# Altium integrated library AltiumLibraries.IntLib: 302 symbols (part 1 of 3)
Pins are listed as number, name and electrical type; pins without a type are passive.

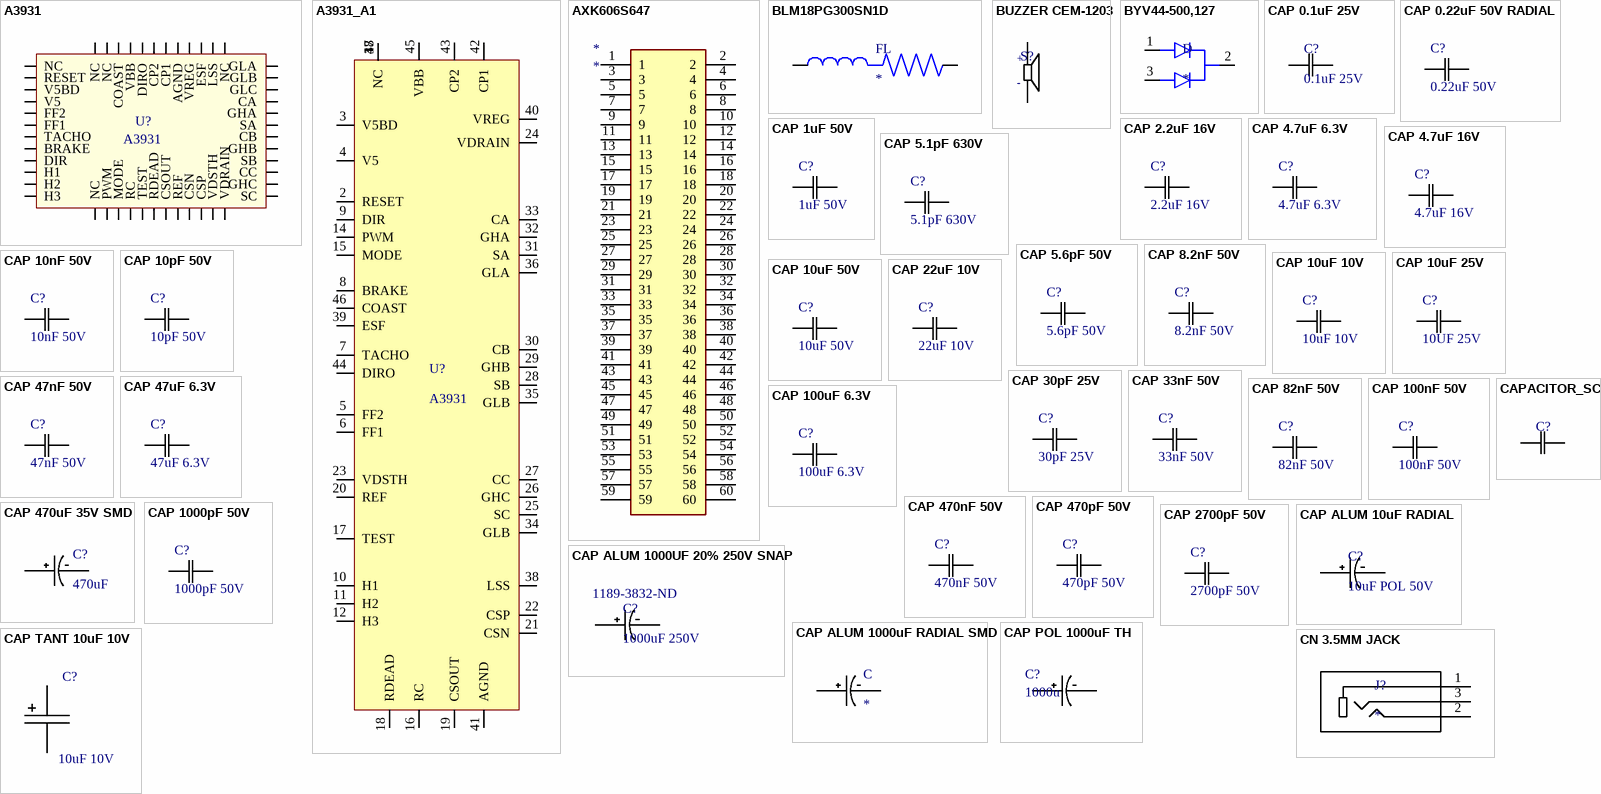
[diagram p0: symbols A3931 to CN 3.5MM JACK]

## A3931
designator U?
IC MOTOR DRIVER 5.5V-50V 48LQFP; MF: Allegro MicroSystems; MP: A3931KJPTR-T; Rating: 5.5V ~ 50V; Digikey: 620-1290-1-ND; Price: 8.948 CAD; Digikey Link: https://www.digikey.com/product-detail/en/allegro-microsystems-llc/A3931KJPTR-T/620-1290-1-ND/2000021; Supplier 1: Digi-Key; Supplier Part Number 1: 620-1290-1-ND
footprint 48-LQFP-EP (7x7)
pins: 1 NC, 2 RESET, 3 V5BD, 4 V5, 5 FF2, 6 FF1, 7 TACHO, 8 BRAKE, 9 DIR, 10 H1, 11 H2, 12 H3, 13 NC, 14 PWM, 15 MODE, 16 RC, 17 TEST, 18 RDEAD, 19 CSOUT, 20 REF, 21 CSN, 22 CSP, 23 VDSTH, 24 VDRAIN, 25 SC, 26 GHC, 27 CC, 28 SB, 29 GHB, 30 CB, 31 SA, 32 GHA, 33 CA, 34 GLC, 35 GLB, 36 GLA, 37 NC, 38 LSS, 39 ESF, 40 VREG, 41 AGND, 42 CP1, 43 CP2, 44 DIRO, 45 VBB, 46 COAST, 47 NC, 48 NC

## A3931_A1
designator U?, comment A3931
IC MOTOR DRIVER 5.5V-50V 48LQFP - Alternative Symbol; Digikey: 620-1290-1-ND; Digikey Link: https://www.digikey.ca/product-detail/en/allegro-microsystems/A3931KJPTR-T/620-1290-1-ND/2000021; Supplier 1: Digi-Key; Supplier Part Number 1: 620-1290-1-ND
footprint 48-LQFP-EP (7x7)
pins: 1 NC, 2 RESET, 3 V5BD, 4 V5, 5 FF2, 6 FF1, 7 TACHO, 8 BRAKE, 9 DIR, 10 H1, 11 H2, 12 H3, 13, 14 PWM, 15 MODE, 16 RC, 17 TEST, 18 RDEAD, 19 CSOUT, 20 REF, 21 CSN, 22 CSP, 23 VDSTH, 24 VDRAIN, 25 SC, 26 GHC, 27 CC, 28 SB, 29 GHB, 30 CB, 31 SA, 32 GHA, 33 CA, 34 GLB, 35 GLB, 36 GLA, 37 NC, 38 LSS, 39 ESF, 40 VREG, 41 AGND, 42 CP1, 43 CP2, 44 DIRO, 45 VBB, 46 COAST, 47 NC, 48 NC

## AXK606S647
designator *
RS14100_WIFI_CONN
footprint AXK606S647 (RS14100_WIFI_CONN)
pins: 1, 2, 3, 4, 5, 6, 7, 8, 9, 10, 11, 12, 13, 14, 15, 16, 17, 18, 19, 20, 21, 22, 23, 24, 25, 26, 27, 28, 29, 30, 31, 32, 33, 34, 35, 36, 37, 38, 39, 40, 41, 42, 43, 44, 45, 46, 47, 48, 49, 50, 51, 52, 53, 54, 55, 56, 57, 58, 59, 60

## BLM18PG300SN1D
designator FL
30 Ohms @ 100MHz 1 Power Line Ferrite Bead 0603 _1608 Metric_ 1A 50mOhm; MF: Murata; MP: BLM18PG300SN1D; SnapEDA_Link: https://www.snapeda.com/parts/BLM18PG300SN1D/Murata/view-part/270173/?ref=snap; Price: None; Availability: Unavailable; Package: 1608 Murata; Value: *
footprint BEADC1608X95N
pins: 1, 2

## BUZZER CEM-1203
designator S?  (value not drawn)
AUDIO MAGNETIC XDCR 3-5V TH; Current Rating: 35 mA @ 3.5 V; Frequency: 2.048 kHz @ 3.5 V; Decibels: 85 dB @ 3.5 V; ComponentLink1Description: Digikey Link; ComponentLink1URL: https://www.digikey.ca/products/en?keywords=CEM%201203%20buzzer; ComponentLink2Description: SnapEDA Link; ComponentLink2URL: https://www.snapeda.com/parts/CEM-1203%2842%29/CUI%20Devices/view-part/?ref=search&t=CEM%201203; Part Name: CEM-1203; Rated Voltage: 3-5 V; Supplier 1: Digi-Key; Supplier Part Number 1: 102-1153-ND
footprint CEM-1203 (2048 Hz Speaker)
pins: N, P
text: +; -

## BYV44-500,127
designator D
DIODE ARRAY GP 500V 30A TO220AB; MP: BYV44-500,127; MF: WeEn Semiconductors; Package: TO-220-3; Supplier 1: Digi-Key; Supplier Part Number 1: BYV44-500,127-ND
footprint to-220-3
pins: 1 ANODE1, 2 COMMON_CATHODE, 3 ANODE2

## CAP 0.1uF 25V
designator C?, comment 0.1uF 25V
CAP CER 0.1UF 25V X7R 0805; Tolerance: 10%; Value: 0.1uF; Temperature Coefficient: X7R; Rating: 25V; Operating Temperature: -55°C ~ 125°C
footprint 0805
pins: 1 C1, 2 C2

## CAP 0.22uF 50V RADIAL
designator C?, comment 0.22uF 50V
CAP CER 0.22UF 50V X7R RADIAL; Tolerance: 10%; Package: Through Hole Radial; Value: 0.22 uF; Rating: 50V; ComponentLink1Description: digikey; ComponentLink1URL: https://www.digikey.ca/product-detail/en/kemet/C317C221K2G5TA7301/399-13974-1-ND/6562545; Temperature coefficient: X7R; Dimensions: 0.200" L x 0.125" W (5.08mm x 3.18mm); Operating temperature: -55°C ~ 125°C
footprint 0.22uF Thru hole
pins: 1 C1, 2 C2

## CAP 1uF 50V
designator C?, comment 1uF 50V
CAP CER 1UF 50V X7R 0805; Tolerance: 10%; Package: 0805; Value: 1uF; Rating: 50V; Temperature Coefficient: X7R; Operating Temperature: -55°C ~ 125°C
footprint 0805
pins: 1 C1, 2 C2

## CAP 2.2uF 16V
designator C?, comment 2.2uF 16V
CAP CER 2.2UF 16V X7R 0805; Tolerance: 10%; Package: 0805; Value: 2.2uF; Rating: 16V; Temperature Coefficient: X7R; Operating Temperature: -55°C ~ 125°C
footprint 0805
pins: 1 C1, 2 C2

## CAP 4.7uF 6.3V
designator C?, comment 4.7uF 6.3V
CAP CER 4.7UF 6.3V X5R 0805; Tolerance: 10%; Temperature Coefficient: X7R, X5R; Package: 0805; Value: 4.7uF; Rating: 6.3V
footprint 0805
pins: 1 C1, 2 C2

## CAP 4.7uF 16V
designator C?, comment 4.7uF 16V
CAP CER 4.7UF 16V X7R 0805; Tolerance: 10%; Package: 0805; Value: 4.7uF; Rating: 16V; Temperature Coefficient: X7R; Operating Temperature: -55°C ~ 125°C
footprint 0805
pins: 1 C1, 2 C2

## CAP 5.1pF 630V
designator C?, comment 5.1pF 630V
CAP CER 5.1PF 630V C0G/NP0 0805; Tolerance: 10%; Rating: 50V; Package: 0805; Value: 5.1pF; Temperature Coefficient: C0G/NP0; Operating Temperature: -55°C ~ 125°C
footprint 0805
pins: 1 C1, 2 C2

## CAP 5.6pF 50V
designator C?, comment 5.6pF 50V
CAP CER 5.6PF 50V C0G/NP0 0805; Tolerance: 5%; Package: 0805; Value: 5.6pF; Rating: 50V; Temperature Coefficient: C0G/NP0; Operating Temperature: -55°C ~ 125°C
footprint 0805
pins: 1 C1, 2 C2

## CAP 8.2nF 50V
designator C?, comment 8.2nF 50V
CAP CER 8200PF 50V X7R 0805; Tolerance: 10%; Package: 0805; Value: 8.2nF; Rating: 50V; Temperature Coefficient: X7R; Operating Temperature: -55°C ~ 125°C
footprint 0805
pins: 1 C1, 2 C2

## CAP 10nF 50V
designator C?, comment 10nF 50V
CAP CER 10000PF 50V X7R 0805; Tolerance: 10%; Package: 0805; Value: 10nF; Rating: 50V; Temperature Coefficient: X7R; Operating Temperature: -55°C ~ 125°C
footprint 0805
pins: 1 C1, 2 C2

## CAP 10pF 50V
designator C?, comment 10pF 50V
CAP CER 10PF 50V X7R 0603; Tolerance: 10%; Package: 0603; Value: 10pF; Rating: 50V; ComponentLink1Description: digikey; ComponentLink1URL: https://www.digikey.ca/en/products/detail/kemet/C0603C100K5RAC7867/8572397
footprint 0603
pins: 1 C1, 2 C2

## CAP 10uF 10V
designator C?, comment 10uF 10V
CAP CER 10UF 10V X5R 0805; Tolerance: 10%; Package: 0805; Value: 10uF; Rating: 10V
footprint 0805
pins: 1 C1, 2 C2

## CAP 10uF 25V
designator C?, comment 10UF 25V
CAP CER 10UF 25V X5R 1206; Tolerance: 10%; Package: 1206; Value: 10uF; Rating: 25V; Temperature Coefficient: X5R; Operating Temperature: -55°C ~ 85°C
footprint 1206
pins: 1 C1, 2 C2

## CAP 10uF 50V
designator C?, comment 10uF 50V
CAP CER 10UF 50V X7R; Tolerance: 10%; Package: 1210; Value: 10uF; Rating: 50V; ComponentLink1Description: digikey; ComponentLink1URL: https://www.digikey.ca/en/products/detail/kemet/C1210C106M5RACTU/4918883
footprint 1210
footprint 0805
pins: 1 C1, 2 C2

## CAP 22uF 10V
designator C?, comment 22uF 10V
CAP CER 2.2UF 10V X5R 0805; Tolerance: 20%; Package: 0805; Value: 22uF; Rating: 10V; Temperature Coefficient: X5R; Operating Temperature: -55°C ~ 85°C
footprint 0805
pins: 1 C1, 2 C2

## CAP 30pF 25V
designator C?, comment 30pF 25V
CAP CER 30PF 25V NP0 0805; Tolerance: 20%; Package: 0805; Value: 30pF; Rating: 25V
footprint 0805
pins: 1 C1, 2 C2

## CAP 33nF 50V
designator C?, comment 33nF 50V
CAP CER 0.033UF 50V X7R 0805; Tolerance: 5%; Package: 0805; Value: 33nF; Rating: 50V; Alt. Value: 33nF
footprint 0805
pins: 1 C1, 2 C2

## CAP 47nF 50V
designator C?, comment 47nF 50V
CAP CER 0.047UF 50V X7R 0805; Tolerance: 5%; Package: 0805; Value: 47nF; Rating: 50V; Alt. Value: 47nF
footprint 0805
pins: 1 C1, 2 C2

## CAP 47uF 6.3V
designator C?, comment 47uF 6.3V
CAP CER 47UF 6.3V X7R 1210; Tolerance: 10%; Package: 1210; Value: 47uF; Rating: 6.3V; ComponentLink1Description: digikey; ComponentLink1URL: https://www.digikey.ca/en/products/detail/kemet/C1210C106M5RACTU/4918883
footprint 1210
pins: 1 C1, 2 C2

## CAP 82nF 50V
designator C?, comment 82nF 50V
CAP CER 0.082UF 50V X7R 0805; Tolerance: 5%; Package: 0805; Value: 82nF; Rating: 50V; Alt. Value: 82nF
footprint 0805
pins: 1 C1, 2 C2

## CAP 100nF 50V
designator C?, comment 100nF 50V
CAP CER 0.1UF 50V X7R 0805; Tolerance: 10%; Package: 0805; Value: 100nF; Rating: 50V
footprint 0805
pins: 1 C1, 2 C2

## CAP 100uF 6.3V
designator C?, comment 100uF 6.3V
CAP CER 100UF 6.3V X5R 1206; Tolerance: 20%; Package: 1206; Value: 100uF; Rating: 6.3V
footprint 1206
pins: 1 C1, 2 C2

## CAP 470nF 50V
designator C?, comment 470nF 50V
CAP CER 0.1UF 50V X7R 0805; Tolerance: 10%; Package: 0805; Value: 470nF; Rating: 50V
footprint 0805
pins: 1 C1, 2 C2

## CAP 470pF 50V
designator C?, comment 470pF 50V
CAP CER 470PF 50V C0G/NPO 0805; Tolerance: 5%; Package: 0805; Value: 470pF; Rating: 50V
footprint 0805
pins: 1 C1, 2 C2

## CAP 470uF 35V SMD
designator C?, comment 470uF
470µF 35V Aluminum Electrolytic Capacitors Radial, Can - SMD 5000 Hrs @ 105°C; MP: EEV-FK1V471Q; MF: Panasonic Electronic; Price: None; Package: Radial Panasonic Electronic
footprint Radial, Can - SMD
pins: NEG, POS

## CAP 1000pF 50V
designator C?, comment 1000pF 50V
CAP CER 1000PF 50V X7R 0805; Tolerance: 10%; Alternative value: 1nF; Package: 0805; Value: 1000pF; Rating: 50V; Temperature Coefficient: X7R
footprint 0805
pins: 1 C1, 2 C2

## CAP 2700pF 50V
designator C?, comment 2700pF 50V
CAP CER 2700PF 50V X7R 0805; Tolerance: 10%; Package: 0805; Value: 2700pF; Rating: 50V; Temperature Coefficient: X7R; Operating Temperature: -55°C ~ 125°C
footprint 0805
pins: 1 C1, 2 C2

## CAP ALUM 10uF RADIAL
designator C?, comment 10uF POL 50V
CAP ALUM 10UF 50V RADIAL; Tolerance: 20%; Temperature Coefficient: Unspecified; ComponentLink1Description: Digikey Link; ComponentLink1URL: https://www.digikey.ca/product-detail/en/panasonic-electronic-components/ECA-1HM100I/P10425CT-ND/8603345; Package: RADIAL; Value: 10uF; Rating: 50V; Operating Temperature: -40°C ~ 85°C; Dimensions: 0.197" Dia (5.00mm)
footprint RADIAL - THRU 5mm (Through Hole)
pins: NEG, POS

## CAP ALUM 1000UF 20% 250V SNAP
designator C?, comment 1000uF 250V  Supplier Part Number 1: 1189-3832-ND
1000µF 250V Aluminum Electrolytic Capacitors Radial, Can - Snap-In  3000 Hrs @ 85°C; Tolerance: 20%; Temperature Coefficient: Unspecified; ComponentLink1Description: Digikey Link; ComponentLink1URL: https://www.digikey.ca/product-detail/en/panasonic-electronic-components/ECA-1HM100I/P10425CT-ND/8603345; Package: RADIAL; Value: 1000uF; Rating: 250V; Operating Temperature: -40°C ~ 85°C; Dimensions: 0.984"" Dia (25.00mm); Supplier 1: Digi-Key
pins: NEG, POS

## CAP ALUM 1000uF RADIAL SMD
designator C
1000µF 25V Aluminum Electrolytic Capacitors Radial, Can - SMD 5000 Hrs @ 105Â°C; MF: Panasonic; MP: EEV-FK1E102Q; Package: Radial Panasonic; Value: *; Price: None; Availability: Unavailable; SnapEDA_Link: https://www.snapeda.com/parts/EEV-FK1E102Q/Panasonic%20Electronic%20Components/view-part/492355/?ref=snap; ComponentLink1Description: Digi-Key; ComponentLink1URL: https://www.digikey.ca/en/products/detail/panasonic-electronic-components/EEV-FK1E102Q/396274?s=N4IgTCBcDaIKJwGoFoBiBpAjHTAGMAiiALoC%2BQA; ComponentLink2Description: ciiva; ComponentLink2URL: https://ciiva.com/part/250usg1000mefcsn25x45-4128165
footprint Radial, Can - SMD
pins: NEG, POS

## CAP POL 1000uF TH
designator C?, comment 1000u
NICHICON   UVR1E102MPD1TD   ALUMINUM ELECTROLYTIC CAPACITOR, 1000UF, 25V, 20%, RADIAL, FULL REEL; Dielectric Material: Aluminium; Life (Hours): 2000Hour; Capacitance: 1mF; Leakage Current: 750uA; Dissipation Factor: 0.16%; Ripple Current: 960mA; Lead Diameter: 0.6mm; Supplier 1: Digi-Key; Manufacturer: Nichicon; Manufacturer Part Number: UVR1E102MPD1TD; RoHS: Yes; Category: Aluminum Electrolytic Capacitors; Stock 1: 43448; Pricing 1: 1=0.58000, 10=0.40800, 100=0.26890 (USD); Mount: Through Hole,PCB; Case/Package: Radial; Number of Pins: 2; Min Operating Temperature: -40°C; Max Operating Temperature: 85°C; Packaging: Tape and Reel; Tolerance: 20%; Voltage Rating (DC): 25V; Voltage Rating: 25V; Termination: Radial; Voltage: 25V; Package Quantity: 500; Diameter: 10mm; Length: 20mm; Height: 20mm; Height - Seated (Max): 0.866inch; Lead Pitch: 5mm; Radiation Hardening: No; REACH SVHC: No SVHC; Lead Free: Lead Free; ComponentLink1URL: https://datasheet.ciiva.com/7851/e-vr-7851718.pdf?src-supplier=Element14; ComponentLink1Description: https://datasheet.ciiva.com/7851/e-vr-7851718.pdf?src-supplier=Element14; ComponentLink2URL: https://datasheet.ciiva.com/6300/e-vr-6300009.pdf?src-supplier=Digi-Key; ComponentLink2Description: https://datasheet.ciiva.com/6300/e-vr-6300009.pdf?src-supplier=Digi-Key; ComponentLink3URL: https://datasheet.ciiva.com/6300/e-vr-6300010.pdf?src-supplier=Digi-Key; ComponentLink3Description: https://datasheet.ciiva.com/6300/e-vr-6300010.pdf?src-supplier=Digi-Key; ComponentLink4URL: https://datasheet.ciiva.com/11684/e-vr-11684106.pdf?src-supplier=Avnet; ComponentLink4Description: https://datasheet.ciiva.com/11684/e-vr-11684106.pdf?src-supplier=Avnet; ComponentLink5URL: https://datasheet.ciiva.com/16502/e-vr-16502813.pdf?src-supplier=Future+Electronics; ComponentLink5Description: https://datasheet.ciiva.com/16502/e-vr-16502813.pdf?src-supplier=Future+Electronics; ComponentLink6URL: https://datasheet.ciiva.com/46381/1909356-46381757.pdf?src-supplier=Element14; ComponentLink6Description: https://datasheet.ciiva.com/46381/1909356-46381757.pdf?src-supplier=Element14; Supplier Part Number 1: 493-5913-1-ND
footprint RADIAL - THRU 5mm (Through Hole)
pins: NEG, POS

## CAP TANT 10uF 10V
designator C?, comment 10uF 10V
CAP TANT 10UF 10V 1206; Tolerance: 10%; ESR (Equivalent Series Resistance): 3.8 Ohm; Type: Molded Tantalum; Package: 1206; Value: 10uF; Rating: 10V; Operating Temperature: -55°C ~ 125°C
footprint 1206 Polarized
pins: 1 P$1, 2 P$2

## CAPACITOR_SCH
designator C?
pins: 1 C1, 2 C2

## CN 3.5MM JACK
designator J?
CN JACK STEREO 3.5MM R/A; MF: CUI Devices; MP: SJ1-3523N; Digikey: CP1-3523N-ND; Digikey Link: https://www.digikey.ca/product-detail/en/cui-devices/SJ1-3523N/CP1-3523N-ND/738689; Supplier 1: Digi-Key; Supplier Part Number 1: CP1-3523N-ND
footprint CONN JACK STEREO 3.5MM R/A
pins: 1, 2, 3

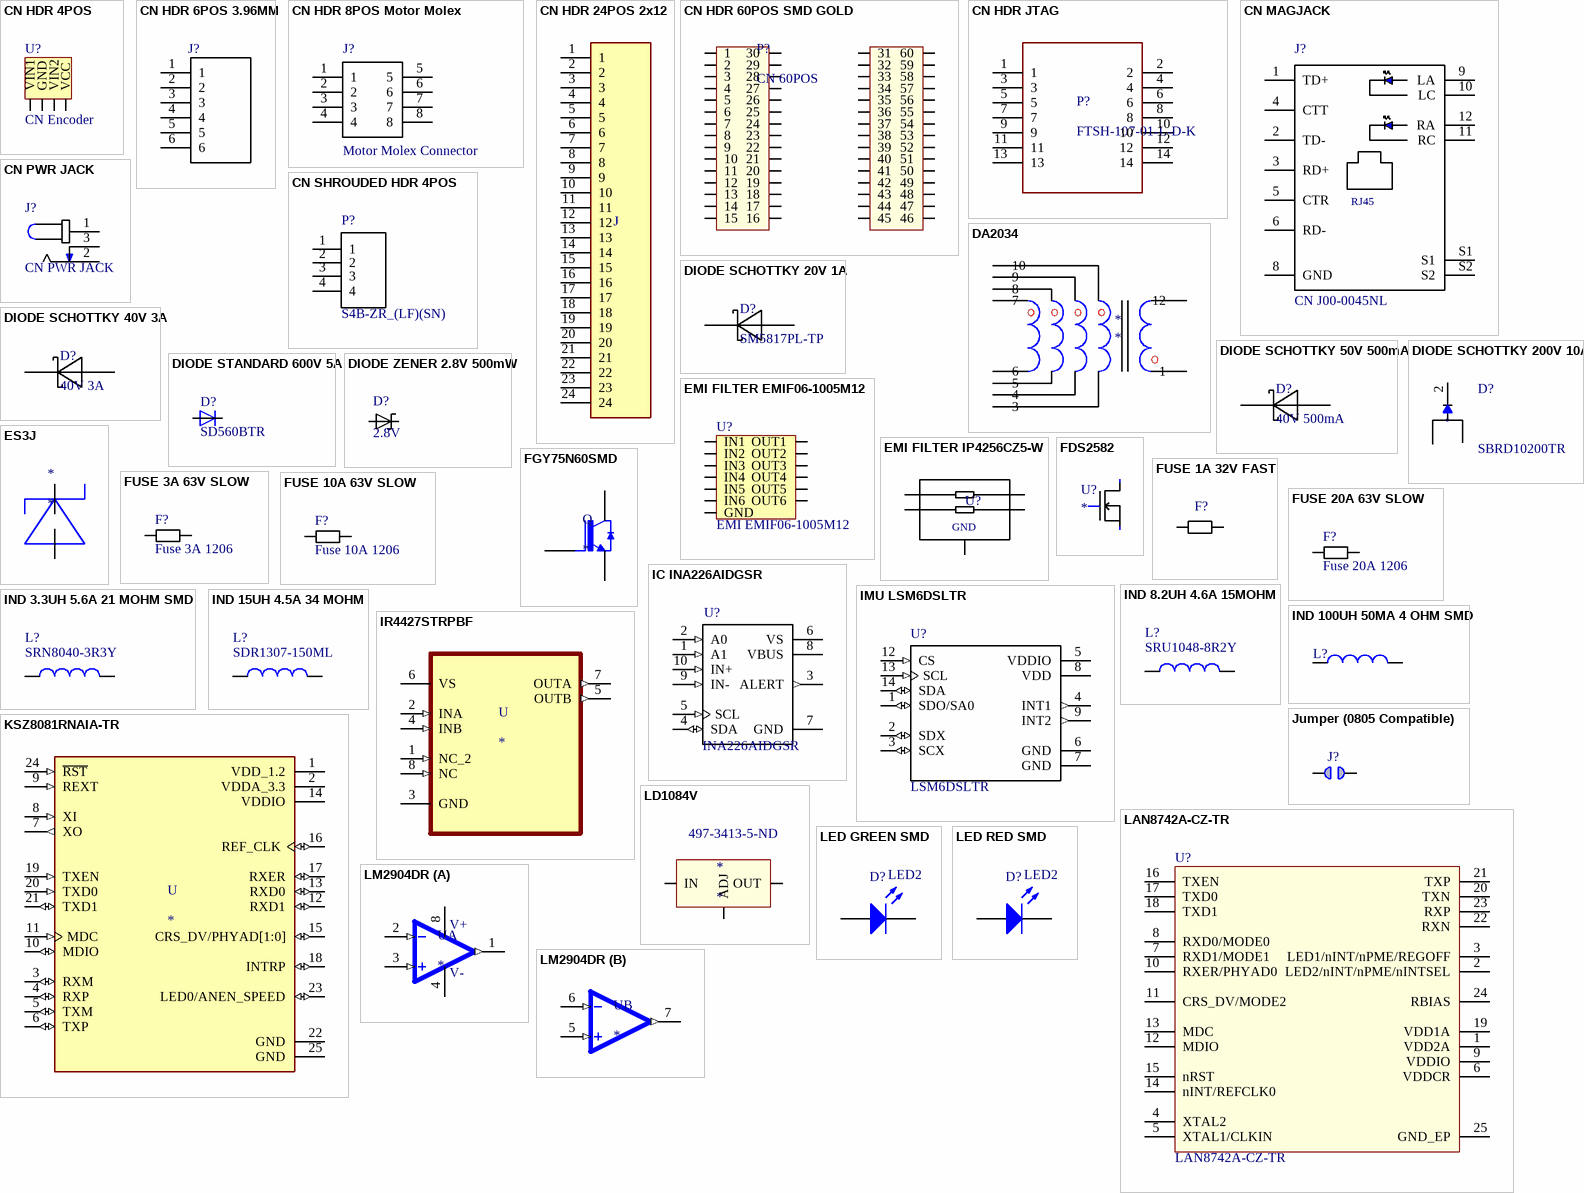
[diagram p1: symbols CN HDR 4POS to LM2904DR]

## CN HDR 4POS
designator U?, comment CN Encoder
CN HDR R/A 4POS 1.5MM; MF: JST Sales America Inc.; MP: S4B-ZR(LF)(SN); Rating: 1A; Digikey: 455-1671-ND; Digikey Link: https://www.digikey.ca/products/en?keywords=455-1671-ND; Price: 0.324 CAD; Package: N/A; Value: N/A; Supplier 1: Digi-Key; Supplier Part Number 1: 455-1671-ND
footprint EncoderConnector (CONN HEADER R/A 4POS 1.5MM)
pins: GND (power), VCC (power), VIN1 (in), VIN2 (in)

## CN HDR 6POS 3.96MM
designator J?, comment CONN HEADER VERT 6POS 3.96MM  (value not drawn)
MF: TE Connectivity; MP: 1877285-6; Current Rating: 7.5A; Voltage Rating: 250VAC; SnapEDA_Link: https://www.snapeda.com/parts/1877285-6/TE%20Connectivity/view-part/2371244/?ref=snap; Digikey: A99849-ND; Digikey Link: https://www.digikey.ca/product-detail/en/te-connectivity-amp-connectors/1877285-6/A99849-ND/2000097; Supplier 1: Digi-Key; Supplier Part Number 1: A99849-ND
footprint CN HDR 6POS 3.96MM
pins: 1, 2, 3, 4, 5, 6

## CN HDR 8POS Motor Molex
designator J?, comment Motor Molex Connector
Connector Header Through Hole 8 position 0.165" (4.20mm); MP: 0039281083; MF: Molex; Digikey: WM3803-ND; Price: 1.624 CAD; Value: N/A; Digikey Link: https://www.digikey.ca/products/en?keywords=WM3803-ND; Supplier 1: Digi-Key; Supplier Part Number 1: WM3803-ND
footprint MOLEX_0039281083
pins: 1, 2, 3, 4, 5, 6, 7, 8

## CN HDR 24POS 2x12
designator J  (value not drawn)
Pin Connector 2X12P MOD2 STIFTLEI 24 POS 0.1" 2.54mm
footprint CN Header 24 POS (12x2) (24 position, dual row, standard 0.1" (2.54mm) spacing.)
pins: 1, 2, 3, 4, 5, 6, 7, 8, 9, 10, 11, 12, 13, 14, 15, 16, 17, 18, 19, 20, 21, 22, 23, 24

## CN HDR 60POS SMD GOLD
designator P?, comment CN 60POS
60 Position Connector Header, Outer Shroud Contacts Surface Mount Gold; MF: Panasonic Electric Works; MP: AXK6S60647YG; Digikey: 255-2536-1-ND; Digikey Link: https://www.digikey.ca/product-detail/en/panasonic-electric-works/AXK6S60647YG/255-2536-1-ND/1986699; Price: 3.718; Value: N/A; Tolerance: N/A; Rating: N/A; Package: N/A; Supplier 1: Digi-Key; Supplier Part Number 1: 255-2536-1-ND
footprint CN HDR 60POS (60 Position Connector Header, Outer Shroud Contacts Surface Mount Gold)
pins: 1, 2, 3, 4, 5, 6, 7, 8, 9, 10, 11, 12, 13, 14, 15, 16, 17, 18, 19, 20, 21, 22, 23, 24, 25, 26, 27, 28, 29, 30, 31, 32, 33, 34, 35, 36, 37, 38, 39, 40, 41, 42, 43, 44, 45, 46, 47, 48, 49, 50, 51, 52, 53, 54, 55, 56, 57, 58, 59, 60

## CN HDR JTAG
designator P?, comment FTSH-107-01-L-D-K
Connector Header Through Hole 14 position 0.050" (1.27mm); MF: Samtec Inc.; Rating: 3.4A; ComponentLink1Description: Digikey; ComponentLink1URL: https://www.digikey.ca/product-detail/en/samtec-inc/FTSH-107-01-L-D-K/612-FTSH-107-01-L-D-K-ND/6693516; ComponentLink2Description: Datasheet; ComponentLink2URL: https://www.digikey.ca/en/datasheets/samtecinc/samtec-inc-ftsh-1xx-xx-xx-d-xx-xx-mkt; Digikey: 612-FTSH-107-01-L-D-K-ND; Digikey Link: https://www.digikey.ca/product-detail/en/samtec-inc/FTSH-107-01-L-D-K/612-FTSH-107-01-L-D-K-ND/6693516; MP: FTSH-107-01-L-D-K; Price: 5.14000 CAD; Supplier 1: Mouser; Supplier Part Number 1: 200-FTSH10701LDK
footprint CN HDR JTAG (CONN HEADER VERT 14POS 1.27MM)
pins: 1, 2, 3, 4, 5, 6, 7, 8, 9, 10, 11, 12, 13, 14

## CN MAGJACK
designator J?, comment CN J00-0045NL
CN MAGJACK 1PORT 100 BASE-TX; MF: Pulse Electronics; Package: None; Digikey Link: https://www.digikey.com/product-detail/en/pulse-electronics-network/J00-0045NL/553-1619-5-ND/1036860?utm_source=snapeda&utm_medium=aggregator&utm_campaign=symbol; Digikey: 553-1619-5-ND; SnapEDA_Link: https://www.snapeda.com/parts/J00-0045NL/Pulse%20Electronics%20Network/view-part/87956/?ref=snap; MP: J00-0045NL; Value: *; Supplier 1: Mouser; Supplier Part Number 1: 673-J00-0045NL
footprint RJ45 J00-0045NL
pins: 1 TD+, 2 TD-, 3 RD+, 4 CTT, 5 CTR, 6 RD-, 8 GND, 9 LA, 10 LC, 11 RC, 12 RA, S1, S2
text: RJ45

## CN PWR JACK
designator J?
1.3 x 4.2 mm, 2.0 A, Horizontal, Through Hole, Dc Power Jack Connector; MP: PJ-007; MF: CUI Devices; Current Rating: 2.0A; Price: None; SnapEDA_Link: https://www.snapeda.com/parts/PJ-007/CUI%20Devices/view-part/260682/?ref=snap; Package: None; Availability: Unavailable; CUI_purchase_URL: https://www.cuidevices.com/product/interconnect/connectors/dc-power-connectors/jacks/pj-007?utm_source=snapeda.com&utm_medium=referral&utm_campaign=snapedaBOM; Value: *; Supplier 1: Digi-Key; Supplier Part Number 1: CP-2519-ND
footprint CUI_PJ-007
pins: 1, 2, 3

## CN SHROUDED HDR 4POS
designator P?, comment S4B-ZR_(LF)(SN)
Conn Shrouded Header HDR 4 POS 1.5mm Solder RA Thru-Hole Box; MP: S4B-ZR _LF__SN_; MF: JST Sales; Package: None; Price: None; Digikey PN: 455-1671-ND; Supplier 1: Digi-Key; Supplier Part Number 1: 455-1671-ND
footprint JST_S4B-ZR(LF)(SN)
pins: 1, 2, 3, 4

## DA2034
designator *
Audio Transformers / Signal Transformers DA2032 Cap Chrgr For Linear LT3750/51; Supplier 1: Mouser; Supplier Part Number 1: 994-DA2034-ALB
footprint DA2034
pins: 1, 3, 4, 5, 6, 7, 8, 9, 10, 12

## DIODE SCHOTTKY 20V 1A
designator D?, comment SM5817PL-TP
Diode Schottky 20V 1A Surface Mount SOD-123FL; MF: Micro Commercial Co; ComponentLink1Description: digikey; ComponentLink1URL: https://www.digikey.ca/product-detail/en/on-semiconductor/MBR0540T1G/MBR0540T1GOSCT-ND/917967; Digikey: SM5817PL-TPMSCT-ND; Digikey Link: https://www.digikey.ca/product-detail/en/micro-commercial-co/SM5817PL-TP/SM5817PL-TPMSCT-ND/1793410; MP: SM5817PL-TP; Voltage Rating: 20V; Package: SOD-123; Current Rating: 1A
footprint SOD-123
pins: A, C K

## DIODE SCHOTTKY 40V 3A
designator D?, comment 40V 3A
Diode Schottky 40V 3A Surface Mount SMA; Voltage - Forward (Vf) (Max) @ If: 450mV @ 3A; ComponentLink1Description: digikey; ComponentLink1URL: https://www.digikey.ca/product-detail/en/on-semiconductor/MBR0540T1G/MBR0540T1GOSCT-ND/917967; Voltage - DC Reverse (Vr) (Max): 40V; Package: DO-214AC; Current - Average Rectified (Io): 3A
footprint DO-214AC
pins: A, C K

## DIODE SCHOTTKY 50V 500mA
designator D?, comment 40V 500mA
DIODE SCHOTTKY SMD 40V 500mA SOD123; Speed: Fast Recovery =< 500ns, > 200mA (Io); Voltage - Forward (Vf) (Max) @ If: 510mV @ 500mA; ComponentLink1Description: digikey; ComponentLink1URL: https://www.digikey.ca/product-detail/en/on-semiconductor/MBR0540T1G/MBR0540T1GOSCT-ND/917967; Voltage - DC Reverse (Vr) (Max): 40V; Package: SOD-123; Current - Average Rectified (Io): 500mA
footprint SOD-123
pins: A, C

## DIODE SCHOTTKY 200V 10A
designator D?, comment SBRD10200TR
Diode Schottky 200V 10A Surface Mount DPAK; MF: SMC Diode; MP: SBRD10200TR; SnapEDA_Link: https://www.snapeda.com/parts/SBRD10200TR/SMC%20Diode%20Solutions/view-part/702246/?ref=snap; Package: TO-252-3 SMC; ComponentLink1Description: digikey; ComponentLink1URL: https://www.digikey.ca/product-detail/en/smc-diode-solutions/SBRD10200TR/1655-1939-1-ND/8625508; Digikey: 1655-1939-1-ND; Digikey Link: https://www.digikey.ca/product-detail/en/smc-diode-solutions/SBRD10200TR/1655-1939-1-ND/8625508
footprint DPAK
pins: 1, 2, 3

## DIODE STANDARD 600V 5A
designator D?, comment SD560BTR
Diode Standard 600V 5A Surface Mount SMB; Supplier 1: Digi-Key; Supplier Part Number 1: 1655-1530-1-ND
footprint DO-214AA
pins: A, C

## DIODE ZENER 2.8V 500mW
designator D?, comment 2.8V
Zener Diode 2.8V 500mW ±5% Surface Mount SOD-123; Impedance (Max) (Zzt): 30 Ohms; Current - Reverse Leakage @ Vr: 75µA @ 1V; Voltage - Forward (Vf) (Max) @ If: 900mV @ 10mA; ComponentLink1Description: digikey; ComponentLink1URL: https://www.digikey.ca/en/products/detail/micro-commercial-co/MMSZ5245B-TP/1793206; Power - Max: 500mW; Voltage - Zener (Nom) (Vz): 2.8V
footprint SOD-123
pins: A, C

## EMI FILTER EMIF06-1005M12
designator U?, comment EMI EMIF06-1005M12
FILTER RC(PI) 100 OHM/45PF SMD; MF: STMicroelectronics; Price: 0.49 CAD; Digikey: 497-7740-1-ND; MP: EMIF06-1005M12; Digikey Link: https://www.digikey.ca/product-detail/en/stmicroelectronics/EMIF06-1005M12/497-7740-1-ND/1883755; Package: 12-UFDFN; Supplier 1: Digi-Key; Supplier Part Number 1: 497-7740-1-ND
footprint Filter (EMIFilter)
pins: 1 IN1, 2 IN2, 3 IN3, 4 IN4, 5 IN5, 6 IN6, 7 OUT1, 8 OUT2, 9 OUT3, 10 OUT4, 11 OUT5, 12 OUT6, GND

## EMI FILTER IP4256CZ5-W
designator U?, comment EMI  (value not drawn)
FILTER RC(PI) 100 OHM/19PF SMD; MF: Nexperia USA Inc.; MP: IP4256CZ5-W,115; SnapEDA_Link: https://www.snapeda.com/parts/IP4256CZ5-W/Nexperia%20USA%20Inc./view-part/3605439/?ref=snap; Price: 0.17 CAD; Package: SOT-665; Digikey: 1727-4718-1-ND; Digikey Link: https://www.digikey.ca/product-detail/en/nexperia-usa-inc/IP4256CZ5-W115/1727-4718-1-ND/2531158; Supplier 1: Digi-Key; Supplier Part Number 1: 1727-4718-1-ND
footprint SOT-665
pins: 1 P$1, 2 P$2, 3 P$3, 4 P$4, 5 P$5
text: GND

## ES3J
designator *
Diode Switching 600V 3A 2-Pin DO-214AB T/R; Manufacturer: ON Semiconductor / Fairchild; Manufacturer Part Number: ES3J; Element Configuration: Single; Power Dissipation: 1.66W; Reverse Recovery Time: 35ns; Peak Non-Repetitive Surge Current: 100A; Polarity: Standard; Capacitance: 45pF; Forward Voltage: 1.7V; Peak Reverse Current: 10uA; Supplier 1: Digi-Key; RoHS: Yes; Category: Zener Diodes; Stock 1: 20740; Pricing 1: 1=0.47000, 10=0.37800, 25=0.34600, 100=0.21740, 250=0.21492, 500=0.20126, 1000=0.13685 (USD); Mount: Surface Mount; Case/Package: SMC; Number of Pins: 2; Contact Plating: Tin,Matte; Min Operating Temperature: -50°C; Max Operating Temperature: 150°C; Reverse Voltage: 600V; Max Reverse Voltage (DC): 600V; Average Rectified Current: 3A; Max Repetitive Reverse Voltage (Vrrm): 600V; Max Forward Surge Current (Ifsm): 100A; Current: 3A; Voltage: 600V; Voltage Rating (DC): 600V; Current Rating: 3A; Output Current: 3A; Max Surge Current: 100A; Packaging: Tape and Reel; Package Quantity: 3000; Recovery Time: 35ns; Forward Current: 3A; Length: 7.11mm; Height: 2.616mm; Width: 6.223mm; Radiation Hardening: No; REACH SVHC: No SVHC; Lead Free: Lead Free; ComponentLink1URL: https://datasheet.ciiva.com/4452/es3j-187547-4452440.pdf?src-supplier=Mouser; ComponentLink1Description: https://datasheet.ciiva.com/4452/es3j-187547-4452440.pdf?src-supplier=Mouser; ComponentLink2URL: https://datasheet.ciiva.com/30479/0900766b810e1d0b-30479500.pdf?src-supplier=RSComponents; ComponentLink2Description: https://datasheet.ciiva.com/30479/0900766b810e1d0b-30479500.pdf?src-supplier=RSComponents; ComponentLink3URL: https://datasheet.ciiva.com/22651/1856389-22651960.pdf?src-supplier=Element14; ComponentLink3Description: https://datasheet.ciiva.com/22651/1856389-22651960.pdf?src-supplier=Element14; ComponentLink4URL: https://datasheet.ciiva.com/26230/es3j-26230952.pdf?src-supplier=Avnet+Europe; ComponentLink4Description: https://datasheet.ciiva.com/26230/es3j-26230952.pdf?src-supplier=Avnet+Europe; ComponentLink5URL: https://datasheet.ciiva.com/911/es3a-911003.pdf?src-supplier=Digi-Key; ComponentLink5Description: https://datasheet.ciiva.com/911/es3a-911003.pdf?src-supplier=Digi-Key; ComponentLink6URL: https://datasheet.ciiva.com/911/es3a-911004.pdf?src-supplier=Digi-Key; ComponentLink6Description: https://datasheet.ciiva.com/911/es3a-911004.pdf?src-supplier=Digi-Key; ComponentLink7URL: https://datasheet.ciiva.com/23683/1856389-23683564.pdf?src-supplier=Newark; ComponentLink7Description: https://datasheet.ciiva.com/23683/1856389-23683564.pdf?src-supplier=Newark; ComponentLink8URL: https://datasheet.ciiva.com/17194/es3j-17194703.pdf?src-supplier=Future+Electronics; ComponentLink8Description: https://datasheet.ciiva.com/17194/es3j-17194703.pdf?src-supplier=Future+Electronics; ComponentLink9URL: https://datasheet.ciiva.com/7965/1856389-7965165.pdf?src-supplier=Element14; ComponentLink9Description: https://datasheet.ciiva.com/7965/1856389-7965165.pdf?src-supplier=Element14; ComponentLink10URL: https://datasheet.ciiva.com/8300/es3j-8300861.pdf?src-supplier=Avnet; ComponentLink10Description: https://datasheet.ciiva.com/8300/es3j-8300861.pdf?src-supplier=Avnet; Supplier Part Number 1: ES3JCT-ND
footprint DO-214AB
pins: IN, OUT

## FDS2582
designator U?
N-Channel 150V 4.1A (Ta) 2.5W (Ta) Surface Mount 8-SOIC; MF: ON Semiconductor; MP: FDS2582; Digikey: FDS2582CT-ND; Price: 0.98 CAD; Rating: 150V; Digikey Link: https://www.digikey.com/product-detail/en/on-semiconductor/FDS2582/FDS2582CT-ND/3025307; Package: 8-SOIC; Supplier 1: Digi-Key; Supplier Part Number 1: FDS2582CT-ND
footprint 8-SOIC MOSFET
pins: D, G, S

## FGY75N60SMD
designator Q
IGBT Field Stop 600V 150A 750W Through Hole PowerTO-247-3; MF: ON Semiconductor; MP: FGY75N60SMD; Vge max: ±20V; Topology: Field Stop IGBT; Vce max: 600V; Package: TO-247 Fairchild Semiconductor; Ic max: 150A; Power: 750W; Supplier 1: Digi-Key; Supplier Part Number 1: FGY75N60SMDFS-ND
footprint TO-247-3
pins: 1 G, 2 C, 3 E

## FUSE 1A 32V FAST
designator F?
FUSE 1A 32V DC 0603; Response Time: Fast Blow; Current Rating: 1A; ComponentLink1Description: digikey; ComponentLink1URL: https://www.digikey.ca/en/products/detail/kemet/C0603C100K5RAC7867/8572397; Voltage Rating - DC: 32V; Operating Temperature: -55°C ~ 90°C
footprint 0603
pins: 1, 2

## FUSE 3A 63V SLOW
designator F?, comment Fuse 3A 1206
FUSE 3A 63V AC/DC SLOW 1206; Response Time: Slow Blow; Current Rating (Amps): 3A; Operating Temperature: -55°C ~ 90°C; Voltage Rating - AC: 63V; Voltage Rating - DC: 63V
footprint 1206
pins: 1, 2

## FUSE 10A 63V SLOW
designator F?, comment Fuse 10A 1206
FUSE 10A 32V AC 63V DC 1206; Response Time: Slow Blow; Rating: 10A; Voltage Rating - DC: 63V; Voltage Rating - AC: 32V; Operating Temperature: -55°C ~ 90°C
footprint 1206
pins: 1, 2

## FUSE 20A 63V SLOW
designator F?, comment Fuse 20A 1206
FUSE 20A 32V AC 63V DC 1206; Response Time: Slow Blow; Current Rating (Amps): 20A; Voltage Rating - AC: 32V; Voltage Rating - DC: 63V; Operating Temperature: -55°C ~ 90°C
footprint 1206
pins: 1, 2

## IC INA226AIDGSR
designator U?, comment INA226AIDGSR
36-V, Bi-Directional, Ultra-High Accuracy, Low-/High-Side, I2C Out Current/Power Monitor w/ Alert 10-VSSOP -40 to 125; MF: Texas Instruments; Price: None; MP: INA226AIDGSR; SnapEDA_Link: https://www.snapeda.com/parts/INA226AIDGSR/Texas%20Instruments/view-part/53552/?ref=snap; Package: MSOP-10 Texas Instruments; Digikey: 296-29034-1-ND; Digikey Link: https://www.digikey.ca/product-detail/en/texas-instruments/INA226AIDGSR/296-29034-1-ND/2687118; Supplier 1: Digi-Key; Supplier Part Number 1: 296-29034-6-ND
footprint 10-VSSOP
pins: 1 A1 (in), 2 A0 (in), 3 ALERT (out), 4 SDA (io), 5 SCL (in), 6 VS (power), 7 GND (power), 8 VBUS (power), 9 IN- (in), 10 IN+ (in)

## IMU LSM6DSLTR
designator U?, comment LSM6DSLTR
IMU ACCEL/GYRO I2C/SPI 14LGA; MF: STMicroelectronics; SnapEDA_Link: https://www.snapeda.com/parts/LSM6DSLTR/STMicroelectronics/view-part/550517/?ref=snap; MP: LSM6DSLTR; Package: LGA-14 STMicroelectronics; Digikey: https://www.digikey.ca/product-detail/en/stmicroelectronics/LSM6DSLTR/497-16705-1-ND/6192805; Supplier 1: Digi-Key; Supplier Part Number 1: 497-16705-1-ND
footprint LGA-14
pins: 1 SDO/SA0 (io), 2 SDX (io), 3 SCX (io), 4 INT1 (out), 5 VDDIO (power), 6 GND (power), 7 GND (power), 8 VDD (power), 9 INT2 (out), 12 CS (in), 13 SCL (in), 14 SDA (io)

## IND 3.3UH 5.6A 21 MOHM SMD
designator L?, comment SRN8040-3R3Y
3.3µH Semi-Shielded Wirewound Inductor 5.6A 21mOhm Max Nonstandard; MF: Bourns Inc.; Inductance: 3.3uH; MP: SRN8040-3R3Y; Price: None; Package: Nonstandard; ComponentLink1Description: digikey; ComponentLink1URL: https://www.digikey.ca/en/products/detail/bourns-inc/SRU1048-8R2Y/2352912; Digikey: SRN8040-3R3YCT-ND; Digikey Link: https://www.digikey.ca/en/products/detail/bourns-inc/SRN8040-3R3Y/2756131
pins: 1, 2

## IND 8.2UH 4.6A 15MOHM
designator L?, comment SRU1048-8R2Y
8.2µH Shielded Wirewound Inductor 4.6A 15mOhm Nonstandard; MF: Bourns Inc.; Value: 8.2uH; MP: SRU1048-8R2Y; Price: None; Package: Nonstandard; ComponentLink1Description: digikey; ComponentLink1URL: https://www.digikey.ca/en/products/detail/bourns-inc/SRU1048-8R2Y/2352912; Digikey: SRU1048-8R2YCT-ND; Digikey Link: https://www.digikey.ca/en/products/detail/bourns-inc/SRU1048-8R2Y/2352912
footprint SRU1048-8R2Y
pins: 1, 2

## IND 15UH 4.5A 34 MOHM
designator L?, comment SDR1307-150ML
15µH Unshielded Wirewound Inductor 4.5A 34mOhm Max Nonstandard; MF: Bourns Inc.; Inductance: 15.0uH; Current - Saturation: 7.5A; MP: SDR1307-150ML; Height - Seated (Max): 0.287"" (7.30mm); ComponentLink1Description: digikey; ComponentLink1URL: https://www.digikey.ca/en/products/detail/bourns-inc/SRU1048-8R2Y/2352912; Digikey: SDR1307-150MLCT-ND; Digikey Link: https://www.digikey.ca/en/products/detail/bourns-inc/SDR1307-150ML/2561929; DC Resistance (DCR): 34mOhm; Operating Temperature: -40°C ~ 125°C; Size / Dimension: 0.512"" L x 0.512"" W (13.00mm x 13.00mm)
pins: 1, 2

## IND 100UH 50MA 4 OHM SMD
designator L?
100µH Unshielded Wirewound Inductor 50mA 4Ohm 0805 (2012 Metric); Value: 100uH; MF: Taiyo Yuden; MP: LBR2012T101K; Revision: July-2002: Re-released for DXP Platform.; Digikey: 587-2048-1-ND; Digikey Link: https://www.digikey.ca/product-detail/en/taiyo-yuden/LBR2012T101K/587-2048-1-ND/1788995; Supplier 1: Digi-Key; Supplier Part Number 1: 587-4040-1-ND
footprint 0805
pins: 1, 2

## IR4427STRPBF
designator U
Low-Side Gate Driver IC Non-Inverting 8-SOIC; MF: Infineon Technologies; MP: IR4427STRPBF; Package: SOIC-8 Infineon; Price: None; Availability: Unavailable; SnapEDA_Link: https://www.snapeda.com/parts/IR4427STRPBF/Infineon%20Technologies/view-part/1815787/?ref=snap; Value: *; Supplier 1: Digi-Key; Supplier Part Number 1: IR4427SPBFCT-ND
footprint 8-SOIC
pins: 1 NC_2 (in), 2 INA (in), 3 GND, 4 INB (in), 5 OUTB (out), 6 VS (power), 7 OUTA (out), 8 NC (in)

## Jumper (0805 Compatible)
designator J?  (value not drawn)
footprint Solder Jumper (Solder jumper compatible with 0805 passives)
pins: 1, 2

## KSZ8081RNAIA-TR
designator U
1/1 Transceiver Full RMII 24-QFN _4x4_; MF: Microchip; MP: KSZ8081RNAIA-TR; Price: None; Value: *; Availability: Unavailable; SnapEDA_Link: https://www.snapeda.com/parts/KSZ8081RNAIA-TR/Microchip/view-part/482545/?ref=snap; Package: QFN-24 Microchip
footprint QFN50P400X400X90-25N
pins: 1 VDD_1.2 (power), 2 VDDA_3.3 (power), 3 RXM (io), 4 RXP (io), 5 TXM (io), 6 TXP (io), 7 XO (out), 8 XI (in), 9 REXT (in), 10 MDIO (io), 11 MDC (in), 12 RXD1 (io), 13 RXD0 (io), 14 VDDIO (power), 15 CRS_DV/PHYAD[1:0] (io), 16 REF_CLK (io), 17 RXER (io), 18 INTRP (io), 19 TXEN (in), 20 TXD0 (in), 21 TXD1 (io), 22 GND (power), 23 LED0/ANEN_SPEED (io), 24 ~{RST} (in), 25 GND (power)

## LAN8742A-CZ-TR
designator U?
LAN8742A-CZ-TR - Small Footprint RMII 10/100 Ethernet, Transceiver with HP Auto-MDIX and flexPWR Technology SQFN-24; MF: Microchip Technology; MP: LAN8742A-CZ-TR; Digikey: LAN8742A-CZ-CT-ND; Digikey Link: https://www.digikey.ca/product-detail/en/microchip-technology/LAN8742A-CZ-TR/LAN8742A-CZ-CT-ND/8256089; Supplier 1: Digi-Key; Supplier Part Number 1: LAN8742A-CZ-CT-ND
footprint 24-QFN (4x4)
pins: 1 VDD2A, 2 LED2/nINT/nPME/nINTSEL, 3 LED1/nINT/nPME/REGOFF, 4 XTAL2, 5 XTAL1/CLKIN, 6 VDDCR, 7 RXD1/MODE1, 8 RXD0/MODE0, 9 VDDIO, 10 RXER/PHYAD0, 11 CRS_DV/MODE2, 12 MDIO, 13 MDC, 14 nINT/REFCLK0, 15 nRST, 16 TXEN, 17 TXD0, 18 TXD1, 19 VDD1A, 20 TXN, 21 TXP, 22 RXN, 23 RXP, 24 RBIAS, 25 GND_EP

## LD1084V
designator *  Supplier Part Number 1: 497-3413-5-ND
STMICROELECTRONICS         LD1084V            LDO Voltage Regulator, Adjustable, 30V in, 1.3V drop, 5A out, TO-220-3; Interface: SPI,Serial; Access Time: 60ns; Output Voltage: 28V; Number of Outputs: 1; Output Voltage Accuracy: 1%; Max Frequency: 5MHz; Input Bias Current: 5mA; Reference Voltage: 1.25V; Polarity: Positive; Quiescent Current: 10mA; Min Output Voltage: 2.5V; Density: 128Kb; Min Input Voltage: 4.25V; Supplier 1: Digi-Key; Manufacturer: STMicroelectronics; Manufacturer Part Number: LD1084V; RoHS: Yes; Category: Voltage Regulators - Linear; Stock 1: 3520; Pricing 1: 1=1.30000, 10=1.16200, 25=1.10320, 100=0.84710, 250=0.74860, 500=0.70920, 1000=0.55160, 2500=0.52402, 5000=0.50432 (USD); Mount: Through Hole; Case/Package: TO; Number of Pins: 3; Min Operating Temperature: -40°C; Max Operating Temperature: 125°C; Dropout Voltage: 1.3V; Package Quantity: 50; Max Input Voltage: 30V; Output Current: 5A; Packaging: Rail/Tube; Max Output Current: 5A; Number of Regulators: 1; Output Type: Adjustable; Accuracy: 1%; Length: 10.4mm; Height: 9.15mm; Width: 4.6mm; Radiation Hardening: No; REACH SVHC: No SVHC; Lead Free: Lead Free; ComponentLink1URL: https://datasheet.ciiva.com/15111/getdatasheetpartid-64852-15111283.pdf?src-supplier=Verical; ComponentLink1Description: https://datasheet.ciiva.com/15111/getdatasheetpartid-64852-15111283.pdf?src-supplier=Verical; ComponentLink2URL: https://datasheet.ciiva.com/27052/1390160-27052164.pdf?src-supplier=Jameco; ComponentLink2Description: https://datasheet.ciiva.com/27052/1390160-27052164.pdf?src-supplier=Jameco; ComponentLink3URL: https://datasheet.ciiva.com/1511/1786011-1511541.pdf?src-supplier=Element14; ComponentLink3Description: https://datasheet.ciiva.com/1511/1786011-1511541.pdf?src-supplier=Element14; ComponentLink4URL: https://datasheet.ciiva.com/16496/cd00003086-16496021.pdf?src-supplier=Future+Electronics; ComponentLink4Description: https://datasheet.ciiva.com/16496/cd00003086-16496021.pdf?src-supplier=Future+Electronics; ComponentLink5URL: https://datasheet.ciiva.com/2045/cd00003086-2045335.pdf?src-supplier=Digi-Key; ComponentLink5Description: https://datasheet.ciiva.com/2045/cd00003086-2045335.pdf?src-supplier=Digi-Key
footprint TO-220-3
pins: 1 IN, 2 ADJ, 3 OUT

## LED GREEN SMD
designator D?, comment LED2
Typical RED, GREEN, YELLOW, AMBER GaAs LED; Voltage - Forward (Vf) (Typ): 2V; Lens Transparency: Clear; Current - Test: 20mA; Package: 1206; Color: Green
footprint 3.2X1.6X1.1 (SMT LED; 2 Flat Leads)
pins: 1 A, 2 K

## LED RED SMD
designator D?, comment LED2
Typical RED, GREEN, YELLOW, AMBER GaAs LED; Lens Color: Colorless; Voltage - Forward (Vf) (Typ): 1.7V; Current - Test: 20mA; Lens Transparency: Clear; Color: Red; Package: 1206
footprint 3.2X1.6X1.1 (SMT LED; 2 Flat Leads)
pins: 1 A, 2 K

## LM2904DR
designator U
General Purpose Amplifier 2 Circuit 8-SOIC; MF: Texas Instruments; MP: LM2904DR; Package: SOIC-8 Texas Instruments; Availability: Unavailable; Value: *; SnapEDA_Link: https://www.snapeda.com/parts/LM2904DR/Texas%20Instruments/view-part/105730/?ref=snap; Price: None; Supplier 1: Digi-Key; Supplier Part Number 1: 296-14596-1-ND
footprint 8-SOIC
part A pins: 1 OUT1 (out), 2 IN1- (in), 3 IN1+ (in), 4 V- (power), 8 V+ (power)
part B pins: 5 IN2+ (in), 6 IN2- (in), 7 OUT2 (out)

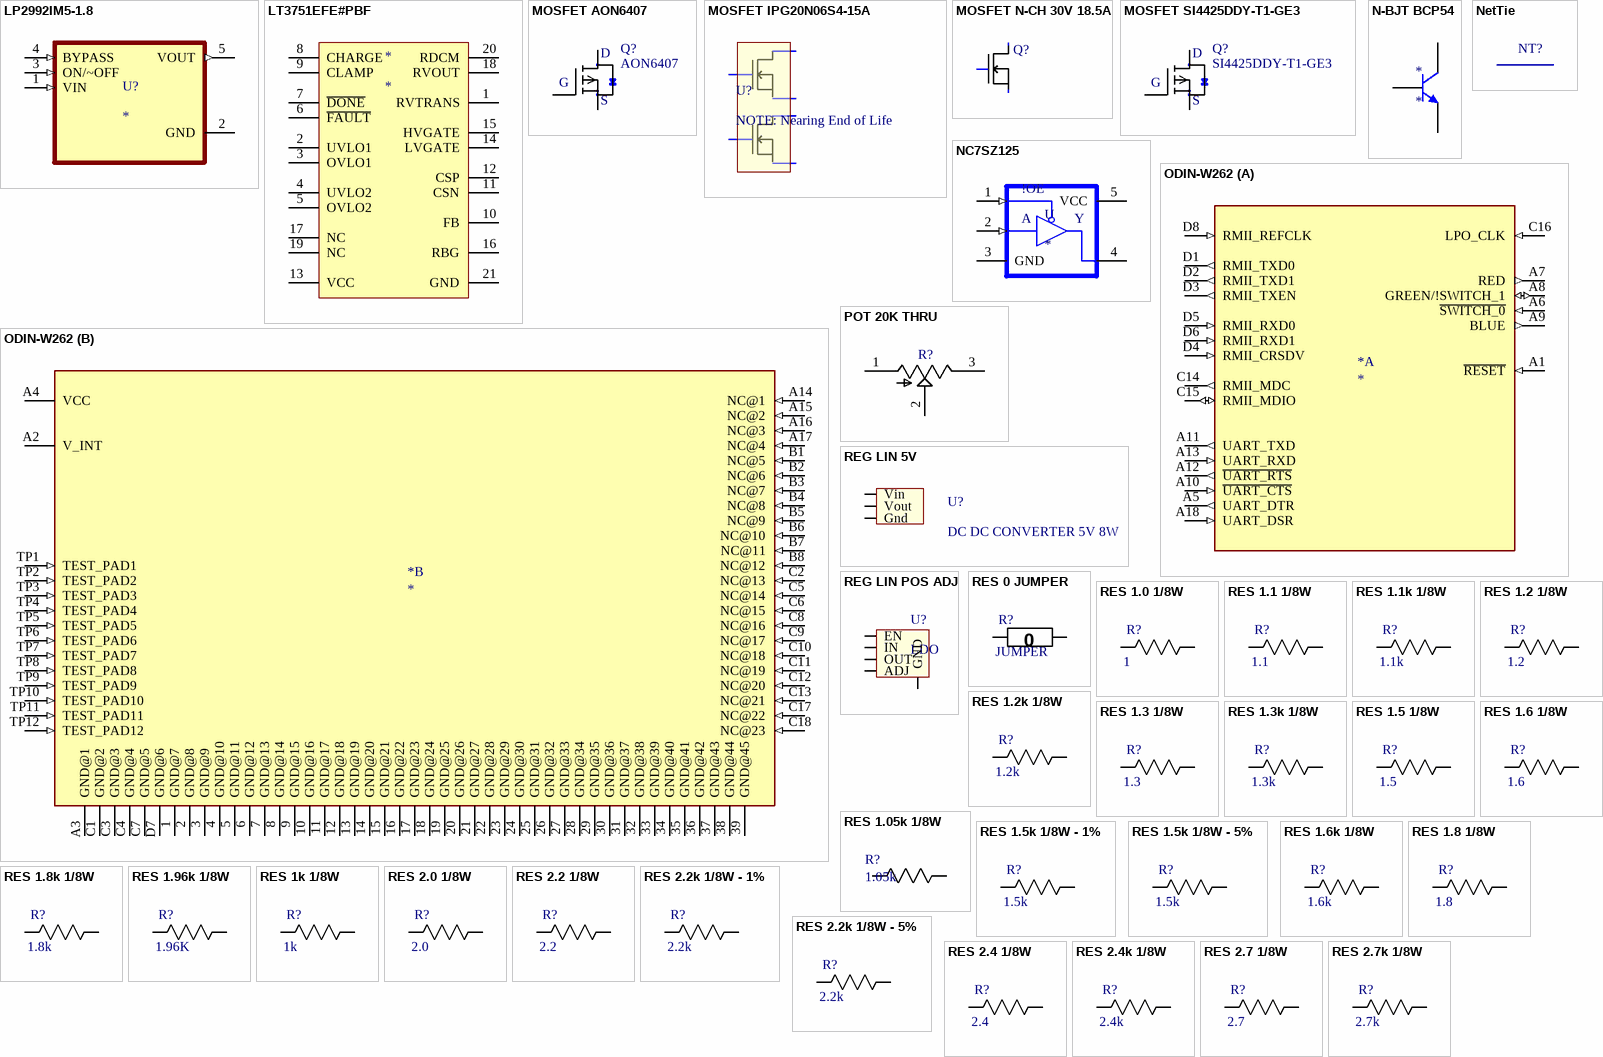
[diagram p2: symbols LP2992IM5-1.8 to RES 2.7k 1/8W]

## LP2992IM5-1.8
designator U?
MP: LP2992IM5-1.8/NOPB; Package: None; Price: None; Value: *; Availability: Unavailable
footprint SOT95P280X145-5N
pins: 1 VIN (in), 2 GND (power), 3 ON/~OFF (in), 4 BYPASS (in), 5 VOUT (out)

## LT3751EFE#PBF
designator *
Controller to 20-Pin TSSOP EP; Manufacturer: Analog Devices / Linear Technology; Manufacturer Part Number: LT3751EFE#PBF; Output Voltage: 500V; Output Current: 150mA; Max Input Voltage: 24V; Min Supply Voltage: 4.75V; Number of Outputs: 1; Operating Supply Current: 5.5mA; Supplier 1: Digi-Key; RoHS: Yes; Category: Voltage Regulators - Switching; Stock 1: 1231; Pricing 1: 1=9.26000, 25=6.14640, 100=5.08200, 250=4.82792, 500=4.71900 (USD); Case/Package: TSSOP; Number of Pins: 20; Min Operating Temperature: -40°C; Max Operating Temperature: 125°C; Package Quantity: 74; Packaging: Rail/Tube; Termination: SMD/SMT; Max Supply Voltage: 24V; Radiation Hardening: No; REACH SVHC: No SVHC; ComponentLink1URL: https://datasheet.ciiva.com/15104/getdatasheetpartid-472813-15104438.pdf?src-supplier=Verical; ComponentLink1Description: https://datasheet.ciiva.com/15104/getdatasheetpartid-472813-15104438.pdf?src-supplier=Verical; ComponentLink2URL: https://datasheet.ciiva.com/31429/1692507-31429494.pdf?src-supplier=Farnell; ComponentLink2Description: https://datasheet.ciiva.com/31429/1692507-31429494.pdf?src-supplier=Farnell; ComponentLink3URL: https://datasheet.ciiva.com/1964/27024-1964843.pdf?src-supplier=Digi-Key; ComponentLink3Description: https://datasheet.ciiva.com/1964/27024-1964843.pdf?src-supplier=Digi-Key
footprint LT-FE-20-EPV-CB_L (SOP, 20-Leads, Body 6.6x4.5mm, Pitch 0.65mm, Thermal Pad 3.86x2.74mm, IPC High Density)
pins: 1 RVTRANS "Transformer Supply Sense Pin. Connect a resistor between the RVTRANS pin and the VTRANS supply. Refer to Table 2 for proper sizing of the RVTRANS resistor. The minimum operation voltage for VTRANS is 4.75V.", 2 UVLO1 "VTRANS Undervoltage Lockout Pin. Senses when VTRANS drops below: VUVLO1 = 1.225+ 50uA •RUVLO1 and trips the F\A\U\L\T\ latch low, disabling switching. After VTRANS rises above VUVLO1, toggling the CHARGE pin reactivate(See Datasheet)", 3 OVLO1 "VTRANS Overvoltage Lockout Pin. Senses when VTRANS rises above: VOVLO1 = 1.225+ 50uA •ROVLO1 and trips the F\A\U\L\T\ latch low, disabling switching. After VTRANS drops below VOVLO1, toggling the CHARGE pin reactivate(See Datasheet)", 4 UVLO2 "VCC Undervoltage Lockout Pin. Senses when VCC drops below: VUVLO2 = 1.225+ 50uA •RUVLO2 and trips the F\A\U\L\T\ latch low, disabling switching. After VCC rises above VUVLO2, toggling the CHARGE pin reactivates switching.", 5 OVLO2 "VCC Overvoltage Lockout Pin. Senses when VCC rises above: VOVLO2 = 1.225+ 50uA •ROVLO2 and trips the F\A\U\L\T\ latch low, disabling switching. After VCC drops below VOVLO2, toggling the CHARGE pin reactivates switching.", 6 ~{FAULT} "Open Collector Indication Pin. When either VTRANS or VCC exceeds the user-selected voltage range, or an internal UVLO condition occurs, a transistor turns on. The part will stop switching. This pin needs a proper pull-up (See Datasheet)", 7 ~{DONE} "Open Collector Indication Pin. When the target output voltage (charge mode) is reached or the F\A\U\L\T\ pin goes low, a transistor turns on. This pin needs a proper pull-up resistor or current source.", 8 CHARGE "Charge Pin. Initiates a new charge cycle (charge mode) or enables the part (regulation mode) when driven higher than 1.5V. Bring this pin below 0.3V to discontinue charging and put the part into shutdown. Turn-on ramp rates (See Datasheet)", 9 CLAMP "Internal Clamp Voltage Selection Pin. Tie this pin to VCC to activate the internal 5.6V gate driver clamp. Tie this pin to ground to activate the internal 10.5V gate driver clamp.", 10 FB "Feedback Regulation Pin. Use this pin to achieve low noise voltage regulation. FB is internally regulated to 1.22V when a resistive divider is tied from this pin to the output. FB pin should not float. Tie FB pin to either a (See Datasheet)", 11 CSN "Negative Current Sense Pin. Senses external NMOS source current. Connect to local RSENSE ground connection for proper Kelvin sensing. The current limit is set by 106mV/RSENSE.", 12 CSP "Positive Current Sense Pin. Senses NMOS source current. Connect the NMOS source terminal and the current sense resistor to this pin. The current limit is fixed at 106mV/RSENSE in charge mode. The current limit can be reduced (See Datasheet)", 13 VCC "Input Supply Pin. Must be locally bypassed with high grade (X5R or better) ceramic capacitor. The minimum operating voltage for VCC is 4.75V.", 14 LVGATE "Low Voltage Gate Pin. Connect the NMOS gate terminal to this pin when operating VCC below 8V. The internal gate driver will drive the voltage to the VCC rail. When operating VCC higher than 8V, tie this pin directly to VCC.", 15 HVGATE "High Voltage Gate Pin. Connect NMOS gate terminal to this pin for all VCC operating voltages. Internal gate driver will drive the voltage to within VCC -2V during each switch cycle.", 16 RBG "Bias Generation Pin. Generates a bias current set by 0.98V/RBG. Select RBG to achieve desired resistance for RDCM, RVOUT, and RVTRANS.", 17 NC "No Connection.", 18 RVOUT "Output Voltage Sense Pin. Develops a current proportional to the output capacitor voltage.", 19 NC "No Connection.", 20 RDCM "Discontinuous Mode Sense Pin. Senses when the external NMOS drain is equal to 20uA ?RDCM + VTRANS and initiates the next switch cycle. Place a resistor equal to 0.45 times the resistor on the RVTRANS pin between this pi(See Datasheet)", 21 GND "Ground. Tie directly to local ground plane."

## MOSFET AON6407
designator Q?, comment AON6407
MOSFET P-CH 30V 32A 8DFN; MF: Alpha & Omega Semiconductor Inc.; Package: 8-PowerSMD; MP: AON6407; Digikey: 785-1421-1-ND; Digikey Link: https://www.digikey.ca/product-detail/en/alpha-omega-semiconductor-inc/AON6407/785-1421-1-ND/3466800; Supplier 1: Digi-Key; Supplier Part Number 1: 785-1421-1-ND
footprint 8-PowerSMD
pins: D, G, S

## MOSFET IPG20N06S4-15A
designator U?, comment NOTE: Nearing End of Life
MOSFET N+N 60V 20A; MF: Infineon Technologies; MF P/N: IPG20N06S4-15A; Supplier 1: Mouser; Supplier Part Number 1: 726-IPG20N06S415ATMA
footprint PG-TDSON-8-10 (Infineon specific mosfet array footprint)
pins: 1 S1, 2 G1, 3 S2, 4 G2, 6 D2, 8 D1

## MOSFET N-CH 30V 18.5A
designator Q?, comment N-Channel  (value not drawn)
MOSFET N-CH 30V 18.5A 8-SOIC; MF: ON Semiconductor; MP: FDS8813NZ; Digikey: FDS8813NZCT-ND; Price: 1.727 CAD; Rating: 30V; Digikey Link: https://www.digikey.ca/product-detail/en/on-semiconductor/FDS8813NZ/FDS8813NZCT-ND/1626932; Package: 8-SOIC; Supplier 1: Digi-Key; Supplier Part Number 1: FDS8813NZCT-ND
footprint 8-SOIC MOSFET
pins: D, G, S

## MOSFET SI4425DDY-T1-GE3
designator Q?, comment SI4425DDY-T1-GE3
P-Channel 30V 19.7A (Tc) 2.5W (Ta), 5.7W (Tc) Surface Mount 8-SO; MF: ON Semiconductor; Package: 8-SOIC; MP: SI4425DDY-T1-GE3; ComponentLink1Description: digikey; ComponentLink1URL: https://www.digikey.ca/en/products/detail/vishay-siliconix/SI4425DDY-T1-GE3/2622187; Digikey: SI4425DDY-T1-GE3CT-ND; Digikey Link: https://www.digikey.ca/product-detail/en/vishay-siliconix/SI4425DDY-T1-GE3/SI4425DDY-T1-GE3CT-ND/3305378
footprint 8-SOIC MOSFET
pins: D, G, S

## N-BJT BCP54
designator *
TRANS NPN 45V 1A SOT223; MF: Nexperia; MP: BCP54; Digikey PN: 1727-1531-1-ND; Supplier 1: Digi-Key; Supplier Part Number 1: 1727-1531-1-ND
footprint SOT-23
pins: 1 B, 2 C, 3 E

## NC7SZ125
designator U
Buffer, Non-Inverting 1 Element 1 Bit per Element 3-State Output SC-70-5; MF: ON Semiconductor; MP: NC7SZ125; SnapEDA_Link: https://www.snapeda.com/parts/NC7SZ125/ON%20Semiconductor/view-part/2686816/?ref=snap; Availability: Unavailable; Price: None; Package: SC-70 ON Semiconductor; Value: *
footprint SC70-5
pins: 1 OE# (in), 2 A (in), 3 GND (power), 4 Y (oc), 5 VCC (power)
text: !OE

## NetTie
designator NT?  (value not drawn)  (net tie, no BOM)
Combines 2 nets
footprint NET_TIE-12 (12mil patch for net tie.)
pins: 1, 2

## ODIN-W262
designator *
Supplier 1: Digi-Key; Supplier Part Number 1: 672-1017-6-ND
footprint ODIN-W262
part A pins: A1 ~{RESET} (in), A5 UART_DTR (out), A6 ~{SWITCH_0} (in), A7 RED (out), A8 GREEN/!SWITCH_1 (io), A9 BLUE (out), A10 ~{UART_CTS} (in), A11 UART_TXD (out), A12 ~{UART_RTS} (out), A13 UART_RXD (in), A18 UART_DSR (in), C14 RMII_MDC (out), C15 RMII_MDIO (io), C16 LPO_CLK (in), D1 RMII_TXD0 (out), D2 RMII_TXD1 (out), D3 RMII_TXEN (out), D4 RMII_CRSDV (in), D5 RMII_RXD0 (in), D6 RMII_RXD1 (in), D8 RMII_REFCLK (in)
part B pins: 1 GND@7 (power), 2 GND@8 (power), 3 GND@9 (power), 4 GND@10 (power), 5 GND@11 (power), 6 GND@12 (power), 7 GND@13 (power), 8 GND@14 (power), 9 GND@15 (power), 10 GND@16 (power), 11 GND@17 (power), 12 GND@18 (power), 13 GND@19 (power), 14 GND@20 (power), 15 GND@21 (power), 16 GND@22 (power), 17 GND@23 (power), 18 GND@24 (power), 19 GND@25 (power), 20 GND@26 (power), 21 GND@27 (power), 22 GND@28 (power), 23 GND@29 (power), 24 GND@30 (power), 25 GND@31 (power), 26 GND@32 (power), 27 GND@33 (power), 28 GND@34 (power), 29 GND@35 (power), 30 GND@36 (power), 31 GND@37 (power), 32 GND@38 (power), 33 GND@39 (power), 34 GND@40 (power), 35 GND@41 (power), 36 GND@42 (power), 37 GND@43 (power), 38 GND@44 (power), 39 GND@45 (power), A2 V_INT (power), A3 GND@1 (power), A4 VCC (power), A14 NC@1 (in), A15 NC@2 (in), A16 NC@3 (in), A17 NC@4 (in), B1 NC@5 (in), B2 NC@6 (in), B3 NC@7 (in), B4 NC@8 (in), B5 NC@9 (in), B6 NC@10 (in), B7 NC@11 (in), B8 NC@12 (in), C1 GND@2 (power), C2 NC@13 (in), C3 GND@3 (power), C4 GND@4 (power), C5 NC@14 (in), C6 NC@15 (in), C7 GND@5 (power), C8 NC@16 (in), C9 NC@17 (in), C10 NC@18 (in), C11 NC@19 (in), C12 NC@20 (in), C13 NC@21 (in), C17 NC@22 (in), C18 NC@23 (in), D7 GND@6 (power), TP1 TEST_PAD1 (in), TP2 TEST_PAD2 (in), TP3 TEST_PAD3 (in), TP4 TEST_PAD4 (in), TP5 TEST_PAD5 (in), TP6 TEST_PAD6 (in), TP7 TEST_PAD7 (in), TP8 TEST_PAD8 (in), TP9 TEST_PAD9 (in), TP10 TEST_PAD10 (in), TP11 TEST_PAD11 (in), TP12 TEST_PAD12 (in)

## POT 20K THRU
designator R?, comment 20K  (value not drawn)
TRIMMER 20K OHM 0.5W PC PIN TOP - Phillips Screw head; MF: Bourns Inc.; MP: 3362P-1-203RLF; ComponentLink1Description: Digikey Link; ComponentLink1URL: https://www.digikey.ca/product-detail/en/bourns-inc/3362P-1-203RLF/3362P-1-203RLFCT-ND/3767981; Digikey: 3362P-1-203RLF; Package: Through Hole; Price: 3.05 CAD; ComponentLink2Description: SnapEDA Link (205, since 203 DNE); ComponentLink2URL: https://www.snapeda.com/parts/3362P-1-205LF/Bourns%20-%20J.W.%20Miller/view-part/463695/
footprint Potentiometer 20K
pins: 1 CCW, 2 WIPER, 3 CW

## REG LIN 5V
designator U?, comment DC DC CONVERTER 5V 8W
Linear Regulator Replacement DC DC Converter 1 Output 5V 1.5A 7V - 36V Input; MF: Murata Power Solutions Inc.; MP: OKI-78SR-5/1.5-W36H-C; ComponentLink1Description: digikey; ComponentLink1URL: https://www.digikey.ca/product-detail/en/murata-power-solutions-inc/OKI-78SR-5-1.5-W36H-C/811-2692-ND/3438675; Digikey: 811-2692-ND; Digikey Link: https://www.digikey.ca/products/en?keywords=OKI-78SR-5%2F1.5-W36H-C; Output Voltage: 5V; Power: 8W; Output Current (Max): 1.5A; Supplier 1: Digi-Key; Supplier Part Number 1: 811-2692-ND
footprint 3-SIP R/A
pins: Gnd, Vin, Vout

## REG LIN POS ADJ
designator U?, comment LDO
Linear Voltage Regulator IC  1 Output  500mA 8-SOIC; MF: Texas Instruments; MP: TL5209DR; Digikey: 296-21569-1-ND; Digikey Link: https://www.digikey.ca/product-detail/en/texas-instruments/TL5209DR/296-21569-1-ND/1427137; Price: 1.548 CAD; Rating: 500mA; Package: 8 SOIC; Supplier 1: Digi-Key; Supplier Part Number 1: 296-21569-1-ND
footprint REG LIN POS ADJ 500MA 8SOIC (Linear Voltage Regulator IC  1 Output  500mA 8-SOIC)
pins: ADJ, EN, GND, IN, OUT

## RES 0 JUMPER
designator R?, comment JUMPER
RES SMD 0 OHM JUMPER GENERIC 0805; Value: 0; Package: 0805
footprint 0805
pins: 1 R1, 2 R2

## RES 1.0 1/8W
designator R?, comment 1
RES SMD 1.0 OHM 5% 1/8W 0805; Power (Watts): 0.125W; Package: 0805; Value: 1; Tolerance: 5%
footprint 0805
pins: 1 R1, 2 R2

## RES 1.1 1/8W
designator R?, comment 1.1
RES SMD 1.1 OHM 5% 1/8W 0805; Power (Watts): 0.125W; Package: 0805; Value: 1.1; Tolerance: 5%
footprint 0805
pins: 1 R1, 2 R2

## RES 1.1k 1/8W
designator R?, comment 1.1k
RES SMD 1.1K OHM 5% 1/8W 0805; Power (Watts): 0.125W; Package: 0805; Value: 1.1k; Tolerance: 5%
footprint 0805
pins: 1 R1, 2 R2

## RES 1.2 1/8W
designator R?, comment 1.2
RES SMD 1.2 OHM 5% 1/8W 0805; Power (Watts): 0.125W; Package: 0805; Value: 1.2; Tolerance: 5%
footprint 0805
pins: 1 R1, 2 R2

## RES 1.2k 1/8W
designator R?, comment 1.2k
RES SMD 1.2K OHM 5% 1/8W 0805; Power (Watts): 0.125W; Package: 0805; Value: 1.2k; Tolerance: 5%
footprint 0805
pins: 1 R1, 2 R2

## RES 1.3 1/8W
designator R?, comment 1.3
RES SMD 1.3 OHM 5% 1/8W 0805; Power (Watts): 0.125W; Package: 0805; Value: 1.3; Tolerance: 5%
footprint 0805
pins: 1 R1, 2 R2

## RES 1.3k 1/8W
designator R?, comment 1.3k
RES SMD 1.3K OHM 5% 1/8W 0805; Power (Watts): 0.125W; Package: 0805; Value: 1.3k; Tolerance: 5%
footprint 0805
pins: 1 R1, 2 R2

## RES 1.5 1/8W
designator R?, comment 1.5
RES SMD 1.5 OHM 5% 1/8W 0805; Power (Watts): 0.125W; Package: 0805; Value: 1.5; Tolerance: 5%
footprint 0805
pins: 1 R1, 2 R2